# Altium footprint library WCAP-ATG8.PcbLib: 5 footprints
Each footprint in its own frame and in the unit in brackets; x right, y up, seen from the top. Pads: shape width x height; smd on the part's side, far side on the other; paste and mask are expansions set on the pad; w line width, h text height; cw(c..) or ccw(c..) is an arc to the next point about the centre after c.
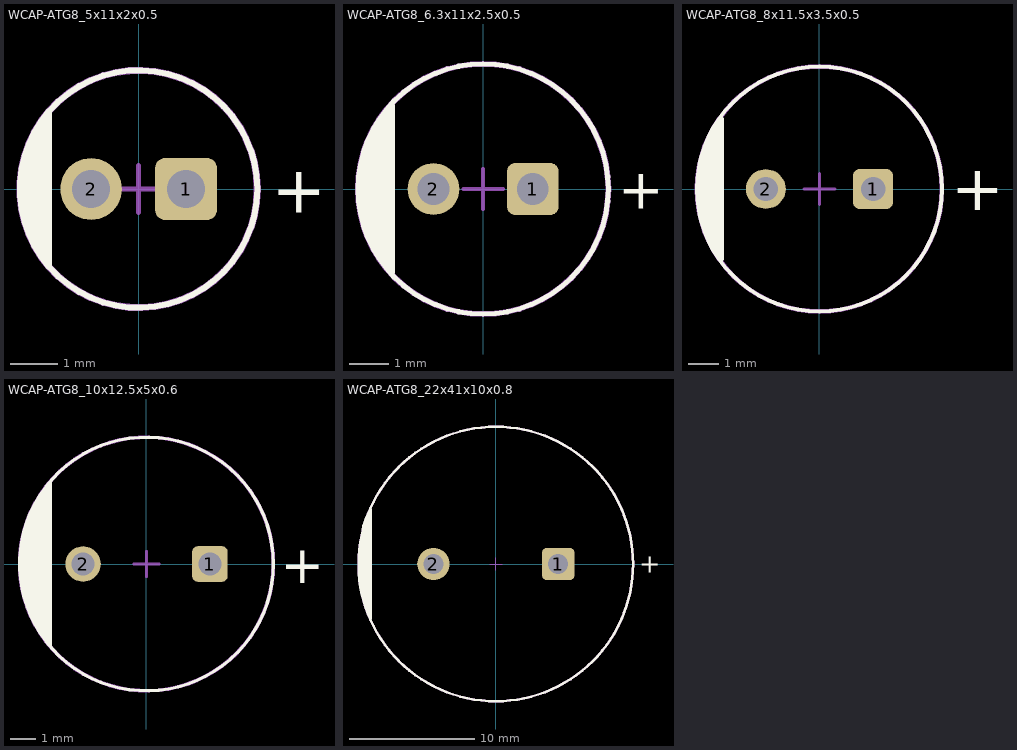
[diagram p0: the footprints below, top view; thin cyan lines are the x and y axes]

## WCAP-ATG8_5x11x2x0.5 [mm] "Polarized capacitors, Aluminum Electrolytic Capacitors, 2-Leads, Body 5x11x2x0.5"
height 11
pads (2):
  rrect30% 1.3x1.3 hole 0.8: 1(1,0)
  round 1.3 hole 0.8: 2(-1,0)
Top Overlay:
  circle w0.127: c0,0 r2.5
  region: -1.917,1.594 -2.055,1.457 -2.272,1.134 -2.422,0.776 -2.499,0.394 -2.5,0.2 -2.519,-0.043 -2.462,-0.526 -2.312,-0.99 -2.075,-1.415 -1.917,-1.6
  lines w0.15: -1.9,-1.6 -1.9,1.6
  text "+" at 2.8,-0.5 h1
Mechanical 13:
  circle w0.127: c0,0 r2.5
  text "+" at 1.8,-0.4 h0.8
Mechanical 15:
  circle w0.15: c0,0 r2.5
  lines w0.1: -0.5,0 0.5,0 ; 0,-0.5 0,0.5
Mechanical 17 (Mech17):
  text ".Designator" at -0.346,-0.162 h1
3D body "5x11x2x0.5.stp": height 11.11, standoff -20.11, extent -2.49,-2.5 2.479,2.487

## WCAP-ATG8_6.3x11x2.5x0.5 [mm] "Polarized capacitors, Aluminum Electrolytic Capacitors, 2-Leads, Body 6.3x11x2.5x0.5"
height 11
pads (2):
  rrect30% 1.3x1.3 hole 0.8: 1(1.25,0)
  round 1.3 hole 0.8: 2(-1.25,0)
Top Overlay:
  circle w0.127: c0,0 r3.15
  region: -2.3,2.2 -2.393,2.11 -2.56,1.912 -2.707,1.699 -2.833,1.472 -2.936,1.235 -3.014,0.988 -3.069,0.735 -3.098,0.477 -3.1,0.348 -3.1,-0.348 -3.098,-0.477 -3.069,-0.735 -3.014,-0.988 -2.936,-1.235 -2.833,-1.472 -2.707,-1.699 -2.56,-1.912 -2.393,-2.11 -2.3,-2.2
  lines w0.15: -2.3,-2.1 -2.3,2.1
  text "+" at 3.4,-0.5 h1
Mechanical 13:
  circle w0.127: c0,0 r3.15
  text "+" at 2.2,-0.5 h1
Mechanical 15:
  circle w0.15: c0,0 r3.15
  lines w0.1: -0.5,0 0.5,0 ; 0,-0.5 0,0.5
Mechanical 17 (Mech17):
  text ".Designator" at -0.346,-0.162 h1
3D body "6.3x11x2.5x0.5.stp": height 11.11, standoff -20.11, extent -3.14,-3.15 3.124,3.133

## WCAP-ATG8_8x11.5x3.5x0.5 [mm] "Polarized capacitors, Aluminum Electrolytic Capacitors, 2-Leads, Body 8x11.5x3.5x0.5"
height 11.5
pads (2):
  rrect30% 1.3x1.3 hole 0.8: 1(1.75,0)
  round 1.3 hole 0.8: 2(-1.75,0)
Top Overlay:
  circle w0.127: c0,0 r4
  region: -3.2,2.3 -3.293,2.21 -3.46,2.012 -3.607,1.799 -3.733,1.572 -3.836,1.335 -3.914,1.088 -3.969,0.835 -3.998,0.577 -4,0.448 -4,-0.448 -3.998,-0.577 -3.969,-0.835 -3.914,-1.088 -3.836,-1.335 -3.733,-1.572 -3.607,-1.799 -3.46,-2.012 -3.293,-2.21 -3.2,-2.3
  lines w0.15: -3.2,-2.3 -3.2,2.3
  text "+" at 4.3,-0.7 h1.5
Mechanical 13:
  circle w0.127: c0,0 r4
  text "+" at 2.75,-0.75 h1.5
Mechanical 15:
  circle w0.15: c0,0 r4
  lines w0.1: -0.5,0 0.5,0 ; 0,-0.5 0,0.5
Mechanical 17 (Mech17):
  text ".Designator" at -0.346,-0.162 h1
3D body "8x11.5x3.5x0.5.stp": height 11.61, standoff -20.11, extent -3.99,-4 3.967,3.978

## WCAP-ATG8_10x12.5x5x0.6 [mm] "Polarized capacitors, Aluminum Electrolytic Capacitors, 2-Leads, Body 10x12.5x5x0.6"
height 12.5
pads (2):
  rrect30% 1.4x1.4 hole 0.9: 1(2.5,0)
  round 1.4 hole 0.9: 2(-2.5,0)
Top Overlay:
  circle w0.127: c0,0 r5
  region: -3.825,3.2 -3.973,3.047 -4.236,2.713 -4.464,2.355 -4.656,1.975 -4.809,1.579 -4.921,1.169 -4.992,0.75 -5.02,0.326 -5.013,0.113 -5.026,-0.113 -5.006,-0.564 -4.941,-1.012 -4.831,-1.451 -4.678,-1.877 -4.484,-2.285 -4.25,-2.672 -3.978,-3.034 -3.825,-3.2
  lines w0.15: -3.8,-3.2 -3.8,3.2
  text "+" at 5.3,-0.75 h1.5
Mechanical 13:
  circle w0.127: c0,0 r5
  text "+" at 3.6,-0.7 h1.5
Mechanical 15:
  circle w0.15: c0,0 r5
  lines w0.1: -0.5,0 0.5,0 ; 0,-0.5 0,0.5
Mechanical 17 (Mech17):
  text ".Designator" at -0.346,-0.162 h1
3D body "10x12.5x5x0.6.stp": height 12.61, standoff -20.11, extent -4.99,-5 4.959,4.973

## WCAP-ATG8_22x41x10x0.8 [mm] "Polarized capacitors, Aluminum Electrolytic Capacitors, 2-Leads, Body 22x41x10x0.8"
height 41
pads (2):
  rrect30% 2.6x2.6 hole 1.6: 1(5,0)
  round 2.6 hole 1.6: 2(-5,0)
Top Overlay:
  circle w0.2: c0,0 r11
  region: -9.975,4.5 -10.087,4.358 -10.283,4.055 -10.449,3.735 -10.585,3.4 -10.69,3.055 -10.761,2.701 -10.8,2.342 -10.804,1.981 -10.79,1.801 -10.99,0.197 -11.027,-0.097 -11.05,-0.691 -11.021,-1.284 -10.942,-1.872 -10.813,-2.451 -10.634,-3.018 -10.407,-3.566 -10.134,-4.093 -9.975,-4.344
  lines w0.15: -10,-4.4 -10,4.4
  text "+" at 11.5,-0.7 h1.5
Mechanical 13:
  circle w0.2: c0,0 r11
  text "+" at 9.3,-0.7 h1.5
Mechanical 15:
  circle w0.15: c0,0 r11
  lines w0.1: -0.5,0 0.5,0 ; 0,-0.5 0,0.5
Mechanical 17 (Mech17):
  text ".Designator" at -0.346,-0.162 h1
3D body "22x41x10x0.8.stp": height 41.11, standoff -20.11, extent -10.99,-11 10.909,10.941